# EAGLE library part DRTR5V0U4S-7 (library SamacSys_Parts)
Diodes Inc DRTR5V0U4S-7 Quad Uni-Directional TVS Diode Array, 200mW peak, 6-Pin SOT-363 Source: Datasheet <https://componentsearchengine.com/Datasheets/1/DRTR5V0U4S-7.pdf>
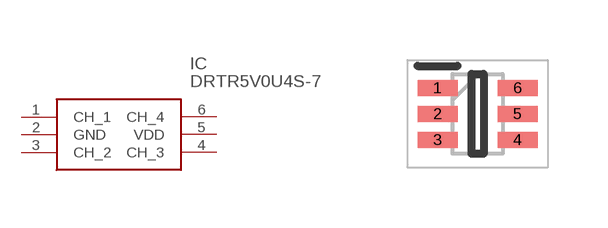
[diagram p8: symbol with the pads of SOT65P210X100-6N; footprint SOT65P210X100-6N]

Designator prefix IC

## DRTR5V0U4S-7 (DESCRIPTION: Diodes Inc DRTR5V0U4S-7 Quad Uni-Directional TVS Diode Array, 200mW peak, 6-Pin SOT-363; HEIGHT: 1mm; MANUFACTURER_NAME: Diodes Inc.; MANUFACTURER_PART_NUMBER: DRTR5V0U4S-7; MOUSER_PART_NUMBER: 621-DRTR5V0U4S-7; MOUSER_PRICE-STOCK: https://www.mouser.com/Search/Refine.aspx?Keyword=621-DRTR5V0U4S-7)  [SOT65P210X100-6N]
1  CH_1
2  GND
3  CH_2
4  CH_3
5  VDD
6  CH_4

## Footprint SOT65P210X100-6N (pad centres in mm)
SOT-363
smd 1 x 0.4: 1 -1,0.65; 2 -1,0; 3 -1,-0.65; 4 1,-0.65; 5 1,0; 6 1,0.65